# EAGLE library part LTC4060 (library rfid)
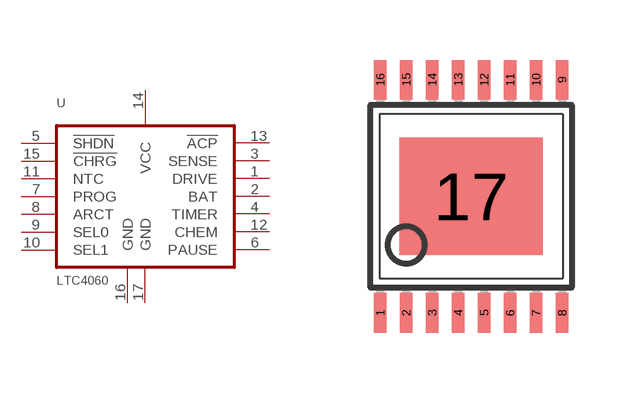
[diagram p1: symbol with the pads of TSSOP16; footprint TSSOP16]

Designator prefix U

## LTC4060EFE  [TSSOP16]
1  DRIVE
2  BAT
3  SENSE
4  TIMER
5  !SHDN
6  PAUSE
7  PROG
8  ARCT
9  SEL0
10  SEL1
11  NTC
12  CHEM
13  !ACP
14  VCC
15  !CHRG
16  GND
17  GND

## Footprint TSSOP16 (pad centres in mm)
Thin Shrink Small Outline Plastic 16 MAX3223-MAX3243.pdf
smd 0.305 x 0.991: 1 -2.275,-2.918; 2 -1.625,-2.918; 3 -0.975,-2.918; 4 -0.325,-2.918; 5 0.325,-2.918; 6 0.975,-2.918; 7 1.625,-2.918; 8 2.275,-2.918; 9 2.275,2.918; 10 1.625,2.918; 11 0.975,2.918; 12 0.325,2.918; 13 -0.325,2.918; 14 -0.975,2.918; 15 -1.625,2.918; 16 -2.275,2.918
smd 3.58 x 2.94: 17 0,0